# Altium schematic symbol library Schametic Library.SchLib: 7 symbols
Pins are listed as number, name and electrical type; pins without a type are passive.

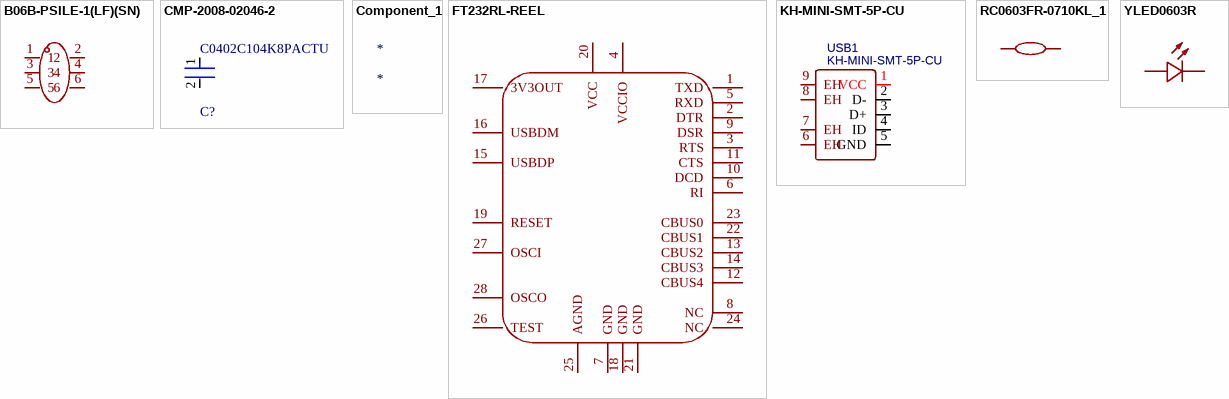
[diagram p0: symbols B06B-PSILE-1(LF)(SN) to YLED0603R]

## B06B-PSILE-1(LF)(SN)
designator U?  (value not drawn)
Manufacturer: JST; Add into BOM: yes; Symbol: B06B-PSILE-1(LF)(SN); Device: B06B-PSILE-1(LF)(SN); LCSC Part Name: B06B-PSILE-1(LF)(SN); Supplier Part: C5305924; Manufacturer Part: B06B-PSILE-1(LF)(SN); Supplier Footprint: -; JLCPCB Part Class: Extended Part; Datasheet: https://atta.szlcsc.com/upload/public/pdf/source/20220125/269FDD7CCCA7D6F7CD97DE92C25BFCB0.pdf; Supplier: LCSC; Convert to PCB: yes
footprint CONN-TH_6P-P4.00_JST_B06B-PSILE-1-LF-SN
3D model CONN-TH_6P-P4.00_JST_B06B-PSILE-1-LF-SN
pins: 1, 2, 3, 4, 5, 6

## CMP-2008-02046-2
designator C?, comment C0402C104K8PACTU
CAP CER 0.1UF 10V X5R 0402; Manufacturer: Kemet; Material: Ceramic; Capacitance: 0.10 μF; Temperature Coefficient: 15%; Tolerance: 0.1; Value: 0.10 μF; Package: C0402-BB; Temperature: -55°C to +125°C; ComponentLink2Description: Datasheet; Temperature Characteristic: X5R; Device Class L1: Passive Components; Height: 0.55mm; Lead Free: Yes; ComponentLink2URL: https://content.kemet.com/datasheets/KEM_C1002_X7R_SMD.pdf; Device Class L2: Capacitors; Temperature Range Low: -55°C; Temperature Range High: +125°C; RoHS: TRUE; Octopart: https://octopart.com/c0402c104k8pactu-kemet-140039; Automotive: No; Mouser Description: Capacitor 100 nF 10 VDC 0402 | KEMET C0402C104K8PACTU (Capacitor 100 nF 10 VDC 0402 Ceramic Capacitors).; Category: Cap; Voltage Rating: 10 V; Digikey Description: CAP CER 0.1UF 10V X5R 0402; Ipc Land Pattern Name: CAPC10050X50; Device Class L3: Ceramic Capacitors; Manufacturer Part Number: C0402C104K8PACTU
footprint FP-C0402-BB-IPC_B
footprint FP-C0402-BB-MFG
footprint FP-C0402-BB-IPC_A
footprint FP-C0402-BB-IPC_C
pins: 1, 2

## Component_1
designator *

## FT232RL-REEL
designator U?  (value not drawn)
Manufacturer: FTDI(飞特帝亚); Add into BOM: yes; Applications Function: USB to UART; Supply Voltage: 3.3V~5.25V; Symbol: FT232RL-REEL; Device: FT232RL-REEL; LCSC Part Name: FT232R USB UART 芯片; Supplier Part: C8690; Manufacturer Part: FT232RL-REEL; Supplier Footprint: SSOP-28-208mil; JLCPCB Part Class: Extended Part; Datasheet: https://atta.szlcsc.com/upload/public/pdf/source/20130221/1457706592200.pdf; Supplier: LCSC; Convert to PCB: yes; Operating Temperature: -40℃~+85℃
footprint SSOP-28_L10.2-W5.3-P0.65-LS7.8-BL
3D model SSOP-28_L10.2-W5.3-H2.0-LS7.8-P0.65
pins: 1 TXD, 2 DTR, 3 RTS, 4 VCCIO, 5 RXD, 6 RI, 7 GND, 8 NC, 9 DSR, 10 DCD, 11 CTS, 12 CBUS4, 13 CBUS2, 14 CBUS3, 15 USBDP, 16 USBDM, 17 3V3OUT, 18 GND, 19 RESET, 20 VCC, 21 GND, 22 CBUS1, 23 CBUS0, 24 NC, 25 AGND, 26 TEST, 27 OSCI, 28 OSCO

## KH-MINI-SMT-5P-CU
designator USB1
Manufacturer: kinghelm(金航标); Contributor: LCSC; Supplier: LCSC; Supplier Part: C2688795; Manufacturer Part: KH-MINI-SMT-5P-Cu; JLCPCB Part Class: Extended Part; spicePre: U; spiceSymbolName: KH-MINI-SMT-5P-CU
footprint MINI-USB-SMD_KH-MINI-SMT-5P-CU
pins: 1 VCC, 2 D-, 3 D+, 4 ID, 5 GND, 6 EH, 7 EH, 8 EH, 9 EH

## RC0603FR-0710KL_1
designator R?, comment 10kΩ  (value not drawn)
Manufacturer: YAGEO(国巨); Symbol: RC0603FR-0710KL; Add into BOM: yes; Tolerance: ±1%; Temperature Coefficient: ±100ppm/℃; Device: RC0603FR-0710KL; LCSC Part Name: 厚膜电阻 10kΩ ±1% 100mW; Supplier Part: C98220; Manufacturer Part: RC0603FR-0710KL; Supplier Footprint: 0603; JLCPCB Part Class: Extended Part; Datasheet: https://atta.szlcsc.com/upload/public/pdf/source/20180927/C295883_E8D83085EA81BD7DE0B2B681138C15EE.pdf; Supplier: LCSC; Convert to PCB: yes; Type: Thick Film Resistors; Value: 10kΩ; Operating Temperature Range: -55℃~+155℃
footprint R0603
3D model R0603
pins: 1, 2

## YLED0603R
designator LED?  (value not drawn)
Manufacturer: YONGYUTAI(永裕泰); Add into BOM: yes; Emitted Color: Red; Forward Voltage (VF): 1.8V~2.4V; Forward Current: 25mA; Dominant Wavelength: 620nm~625nm; Symbol: YLED0603R; Device: YLED0603R; LCSC Part Name: YLED0603R; Supplier Part: C19171390; Manufacturer Part: YLED0603R; Supplier Footprint: 0603; JLCPCB Part Class: Extended Part; Datasheet: https://atta.szlcsc.com/upload/public/pdf/source/20231027/FB19AF06E2C70028E58AB5CEDD1BDC72.pdf; Supplier: LCSC; Convert to PCB: yes; Power Dissipation: -; Peak Wavelength: -; Diode Configuration: -; Lens Color: -; Color Temperature: -; Luminous Intensity: -; Viewing Angle: -; Mounting Sytle: -; Operating Temperature: -40℃~+85℃
footprint LED0603-FD
3D model LED0603_Inf
pins: 1 +, 2 -